# EAGLE library part GPS (library BaseApp)
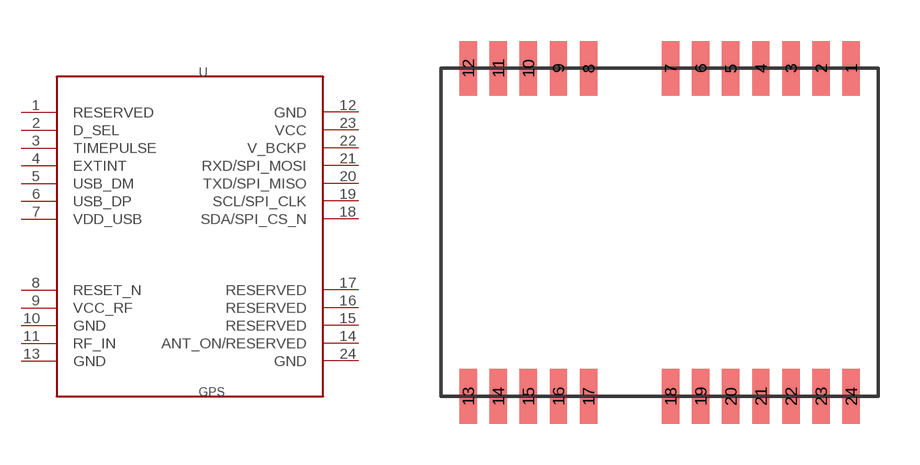
[diagram p158: symbol with the pads of GPS-NEO-M8; footprint GPS-NEO-M8]

Designator prefix -

## GPS  [GPS-NEO-M8]
1  RESERVED
2  D_SEL
3  TIMEPULSE
4  EXTINT
5  USB_DM
6  USB_DP
7  VDD_USB
8  RESET_N
9  VCC_RF
10  GND
11  RF_IN
12  GND
13  GND
14  ANT_ON/RESERVED
15  RESERVED
16  RESERVED
17  RESERVED
18  SDA/SPI_CS_N
19  SCL/SPI_CLK
20  TXD/SPI_MISO
21  RXD/SPI_MOSI
22  V_BCKP
23  VCC
24  GND

## Footprint GPS-NEO-M8 (pad centres in mm)
smd 0.635 x 2: 1 7,6; 2 5.9,6; 3 4.8,6; 4 3.7,6; 5 2.6,6; 6 1.5,6; 7 0.4,6; 8 -2.6,6; 9 -3.7,6; 10 -4.8,6; 11 -5.9,6; 12 -7,6; 13 -7,-6; 14 -5.9,-6; 15 -4.8,-6; 16 -3.7,-6; 17 -2.6,-6; 18 0.4,-6; 19 1.5,-6; 20 2.6,-6; 21 3.7,-6; 22 4.8,-6; 23 5.9,-6; 24 7,-6